# Altium integrated library Lattice FPGA XP2.IntLib: 160 symbols (part 14 of 35)
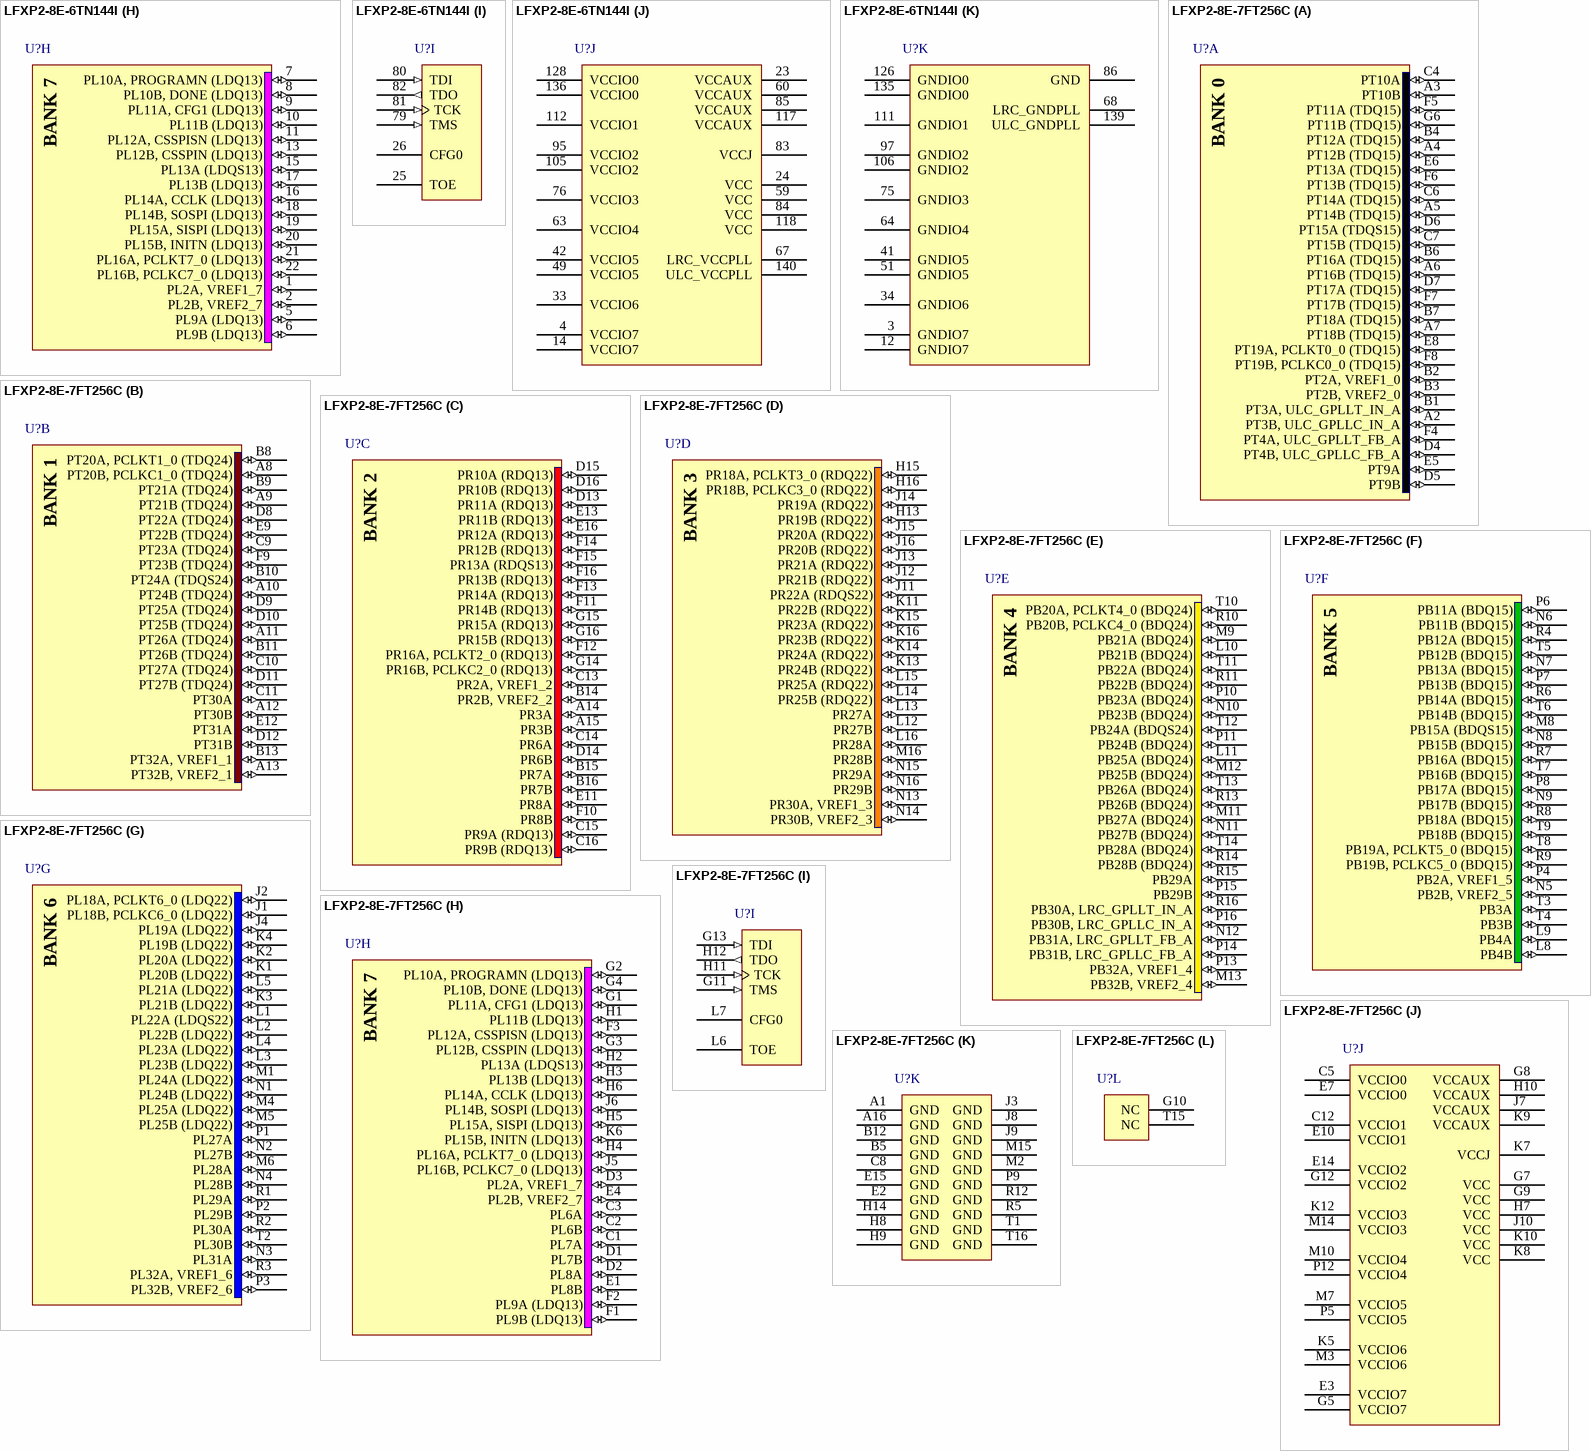
[diagram p279: symbols LFXP2-8E-6TN144I to LFXP2-8E-7FT256C]

## LFXP2-8E-6TN144I
designator U?
XP2, 1.2V FPGA, 100 I/Os, 8K LUTs, 144-Pin TQFP, Speed Grade 6, Industrial Grade, Pb-Free; DatasheetVersion: ver01.8, Jun-2008; PackageVersion: ver02.8, Jul-2011; PackageReference: TQFP144; PackageDescription: 144-Pin Thin Quad Flat Pack (TQFP144); Code_JEDEC: MS-026-BFB; ComponentLink1Description: Manufacturer URL; ComponentLink1URL: http://www.latticesemi.com/; ComponentLink2Description: Datasheet; ComponentLink2URL: http://www.latticesemi.com/documents/DS1009.pdf; ComponentLink3Description: Package Specification; ComponentLink3URL: http://www.latticesemi.com/lit/docs/package/pkg.pdf
footprint TQFP144_N (Thin QFP, 144-Leads, Body 20x20mm, Pitch 0.5mm, IPC Medium Density)
footprint TQFP144_L (Thin QFP, 144-Leads, Body 20x20mm, Pitch 0.5mm, IPC High Density)
footprint TQFP144_M (Thin QFP, 144-Leads, Body 20x20mm, Pitch 0.5mm, IPC Low Density)
part A pins: 119 PT19B, PCLKC0_0 (TDQ15) (io), 120 PT19A, PCLKT0_0 (TDQ15) (io), 121 PT18B (TDQ15) (io), 122 PT17B (TDQ15) (io), 123 PT18A (TDQ15) (io), 124 PT17A (TDQ15) (io), 125 PT16B (TDQ15) (io), 127 PT16A (TDQ15) (io), 129 PT15B (TDQ15) (io), 130 PT14B (TDQ15) (io), 131 PT15A (TDQS15) (io), 132 PT14A (TDQ15) (io), 133 PT13B (TDQ15) (io), 134 PT13A (TDQ15) (io), 137 PT4B, ULC_GPLLC_FB_A (io), 138 PT4A, ULC_GPLLT_FB_A (io), 141 PT2B, VREF2_0 (io), 142 PT3B, ULC_GPLLC_IN_A (io), 143 PT2A, VREF1_0 (io), 144 PT3A, ULC_GPLLT_IN_A (io)
part B pins: 109 PT32B, VREF2_1 (io), 110 PT32A, VREF1_1 (io), 113 PT21B (io), 114 PT20B, PCLKC1_0 (io), 115 PT21A (io), 116 PT20A, PCLKT1_0 (io)
part C pins: 87 PR16B, PCLKC2_0 (RDQ13) (io), 88 PR16A, PCLKT2_0 (RDQ13) (io), 89 PR15B (RDQ13) (io), 90 PR15A (RDQ13) (io), 91 PR14B (RDQ13) (io), 92 PR13B (RDQ13) (io), 93 PR14A (RDQ13) (io), 94 PR13A (RDQS13) (io), 96 PR12B (RDQ13) (io), 98 PR12A (RDQ13) (io), 99 PR11B (RDQ13) (io), 100 PR10B (RDQ13) (io), 101 PR11A (RDQ13) (io), 102 PR10A (RDQ13) (io), 103 PR9B (RDQ13) (io), 104 PR9A (RDQ13) (io), 107 PR2B, VREF2_2 (io), 108 PR2A, VREF1_2 (io)
part D pins: 73 PR30A, VREF1_3 (io), 74 PR30B, VREF2_3 (io), 77 PR18B, PCLKC3_0 (io), 78 PR18A, PCLKT3_0 (io)
part E pins: 61 PB20A, PCLKT4_0 (io), 62 PB20B, PCLKC4_0 (io), 65 PB30A, LRC_GPLLT_IN_A (io), 66 PB30B, LRC_GPLLC_IN_A (io), 69 PB31A, LRC_GPLLT_FB_A (io), 70 PB32A, VREF1_4 (io), 71 PB31B, LRC_GPLLC_FB_A (io), 72 PB32B, VREF2_4 (io)
part F pins: 37 PB3A (io), 38 PB2A, VREF1_5 (io), 39 PB3B (io), 40 PB2B, VREF2_5 (io), 43 PB13B (BDQ15) (io), 44 PB13A (BDQ15) (io), 45 PB15A (BDQS15) (io), 46 PB14A (BDQ15) (io), 47 PB15B (BDQ15) (io), 48 PB14B (BDQ15) (io), 50 PB16A (BDQ15) (io), 52 PB16B (BDQ15) (io), 53 PB17A (BDQ15) (io), 54 PB17B (BDQ15) (io), 55 PB18A (BDQ15) (io), 56 PB19A, PCLKT5_0 (BDQ15) (io), 57 PB18B (BDQ15) (io), 58 PB19B, PCLKC5_0 (BDQ15) (io)
part G pins: 27 PL19A (io), 28 PL18A, PCLKT6_0 (io), 29 PL19B (io), 30 PL18B, PCLKC6_0 (io), 31 PL20B (io), 32 PL20A (io), 35 PL32A, VREF1_6 (io), 36 PL32B, VREF2_6 (io)
part H pins: 1 PL2A, VREF1_7 (io), 2 PL2B, VREF2_7 (io), 5 PL9A (LDQ13) (io), 6 PL9B (LDQ13) (io), 7 PL10A, PROGRAMN (LDQ13) (io), 8 PL10B, DONE (LDQ13) (io), 9 PL11A, CFG1 (LDQ13) (io), 10 PL11B (LDQ13) (io), 11 PL12A, CSSPISN (LDQ13) (io), 13 PL12B, CSSPIN (LDQ13) (io), 15 PL13A (LDQS13) (io), 16 PL14A, CCLK (LDQ13) (io), 17 PL13B (LDQ13) (io), 18 PL14B, SOSPI (LDQ13) (io), 19 PL15A, SISPI (LDQ13) (io), 20 PL15B, INITN (LDQ13) (io), 21 PL16A, PCLKT7_0 (LDQ13) (io), 22 PL16B, PCLKC7_0 (LDQ13) (io)
part I pins: 25 TOE, 26 CFG0, 79 TMS (in), 80 TDI (in), 81 TCK (in), 82 TDO (out)
part J pins: 4 VCCIO7 (power), 14 VCCIO7 (power), 23 VCCAUX (power), 24 VCC (power), 33 VCCIO6 (power), 42 VCCIO5 (power), 49 VCCIO5 (power), 59 VCC (power), 60 VCCAUX (power), 63 VCCIO4 (power), 67 LRC_VCCPLL (power), 76 VCCIO3 (power), 83 VCCJ (power), 84 VCC (power), 85 VCCAUX (power), 95 VCCIO2 (power), 105 VCCIO2 (power), 112 VCCIO1 (power), 117 VCCAUX (power), 118 VCC (power), 128 VCCIO0 (power), 136 VCCIO0 (power), 140 ULC_VCCPLL (power)
part K pins: 3 GNDIO7 (power), 12 GNDIO7 (power), 34 GNDIO6 (power), 41 GNDIO5 (power), 51 GNDIO5 (power), 64 GNDIO4 (power), 68 LRC_GNDPLL (power), 75 GNDIO3 (power), 86 GND (power), 97 GNDIO2 (power), 106 GNDIO2 (power), 111 GNDIO1 (power), 126 GNDIO0 (power), 135 GNDIO0 (power), 139 ULC_GNDPLL (power)
part A text: BANK 0
part B text: BANK 1
part C text: BANK 2
part D text: BANK 3
part E text: BANK 4
part F text: BANK 5
part G text: BANK 6
part H text: BANK 7